# EAGLE library part MN3102 (library mb3_integrated circuits)
BBD Clock Clock driver for the 3207, 3208 and 3205 BBD. v3102: http://smallbear-electronics.mybigcommerce.com/ic-v3102d/ BL3102: http://smallbear-electronics.mybigcommerce.com/ic-bl3102/
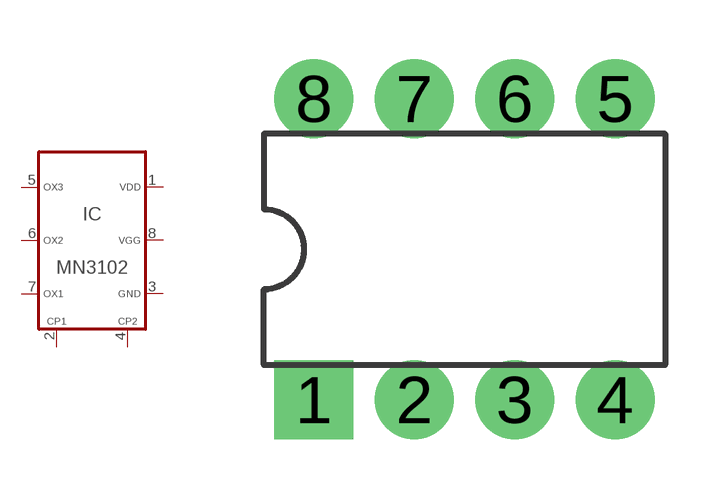
[diagram p30: symbol with the pads of DIP08; footprint DIP08]

Designator prefix IC

## MN3102  [DIP08]
1  P$1
2  P$2
3  P$3
4  P$4
5  P$5
6  P$6
7  P$7
8  P$8

## Footprint DIP08 (pad centres in mm)
Dual In Line Package
drill 1 pad 2 square: 1 -3.81,-3.81
drill 1 pad 2: 2 -1.27,-3.81; 3 1.27,-3.81; 4 3.81,-3.81; 5 3.81,3.81; 6 1.27,3.81; 7 -1.27,3.81; 8 -3.81,3.81